# Altium schematic symbol library RSTA1AMMO.SchLib: 1 symbol
Pins are listed as number, name and electrical type; pins without a type are passive.

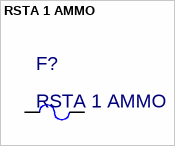
[diagram p0: symbol RSTA 1 AMMO]

## RSTA 1 AMMO
designator F?
Built_By: EMA_UL_Team; Vendor: BelFuse; Value: RSTA 1 AMMO; Manufacturer_Part_Number: RSTA 1 AMMO
footprint RSTA
pins: 1, 2
1 alternate drawing of the same symbol